# EAGLE library part 74AHC595 (library nixie_ticker)
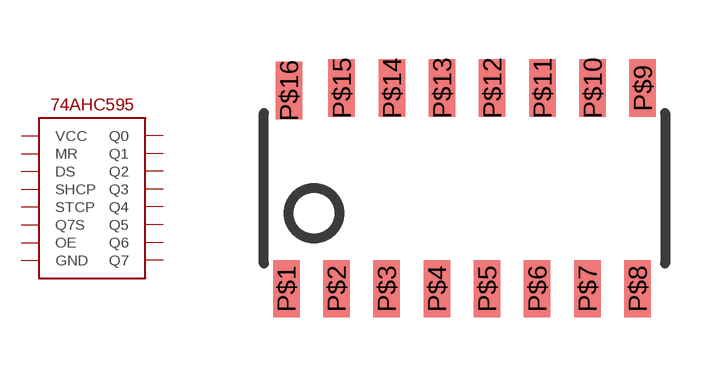
[diagram p2: symbol with the pads of 16SOIC; footprint 16SOIC]

Designator prefix -

## 74AHC595  [16SOIC]
P$1  Q1
P$2  Q2
P$3  Q3
P$4  Q4
P$5  Q5
P$6  Q6
P$7  Q7
P$8  GND
P$9  Q7S
P$10  MR
P$11  SHCP
P$12  STCP
P$13  OE
P$14  DS
P$15  Q0
P$16  VCC

## Footprint 16SOIC (pad centres in mm)
smd 0.67 x 1.45: P$1 -4.51,-2.54; P$2 -3.24,-2.54; P$3 -1.97,-2.54; P$4 -0.7,-2.54; P$5 0.57,-2.54; P$6 1.84,-2.54; P$7 3.11,-2.54; P$8 4.38,-2.54; P$9 4.51,2.54; P$10 3.24,2.54; P$11 1.97,2.54; P$12 0.7,2.54; P$13 -0.57,2.54; P$14 -1.84,2.54; P$15 -3.11,2.54; P$16 -4.445,2.475